# EAGLE library part LPS331AP (library st)
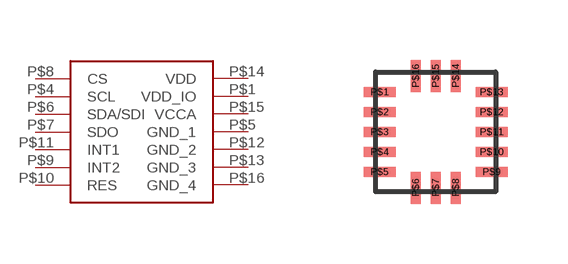
[diagram p11: symbol with the pads of HCLGA16; footprint HCLGA16]

Designator prefix -

## LPS331AP  [HCLGA16]
P$1  VDD_IO
P$4  SCL
P$5  GND_1
P$6  SDA/SDI
P$7  SDO
P$8  CS
P$9  INT2
P$10  RES
P$11  INT1
P$12  GND_2
P$13  GND_3
P$14  VDD
P$15  VCCA
P$16  GND_4

## Footprint HCLGA16 (pad centres in mm)
smd 0.8 x 0.25: P$1 -1.4,1; P$2 -1.4,0.5; P$3 -1.4,0; P$4 -1.4,-0.5; P$5 -1.4,-1; P$9 1.4,-1; P$10 1.4,-0.5; P$11 1.4,0; P$12 1.4,0.5; P$13 1.4,1
smd 0.25 x 0.8: P$6 -0.5,-1.4; P$7 0,-1.4; P$8 0.5,-1.4; P$14 0.5,1.4; P$15 0,1.4; P$16 -0.5,1.4